# EAGLE library part CP2104 (library PIC)
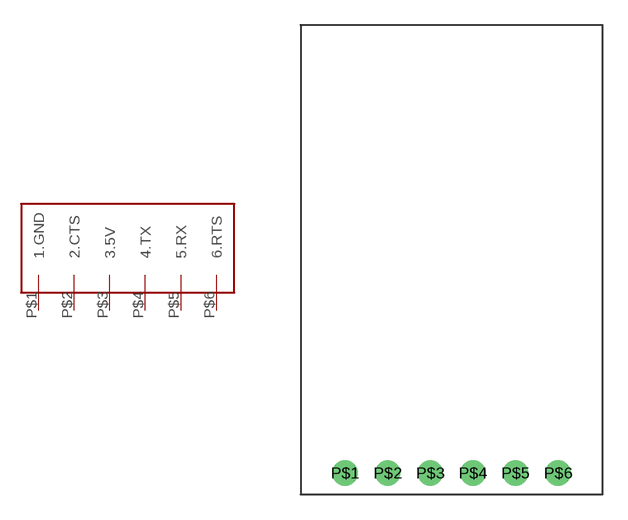
[diagram p1: symbol with the pads of CP2104; footprint CP2104]

Designator prefix -

## CP2104  [CP2104]
P$1  1.GND
P$2  2.CTS
P$3  3.5V
P$4  4.TX
P$5  5.RX
P$6  6.RTS

## Footprint CP2104 (pad centres in mm)
drill 1: P$1 0,0; P$2 2.54,0; P$3 5.08,0; P$4 7.62,0; P$5 10.16,0; P$6 12.7,0